# EAGLE library part COMPARATOR_2OUTPUT_2EXTERN (library analog-computer)
Compartor with TRUE and FALSE binary output U = 0 for (a > b) U = 1 for (b > a) Two extra external control lines.
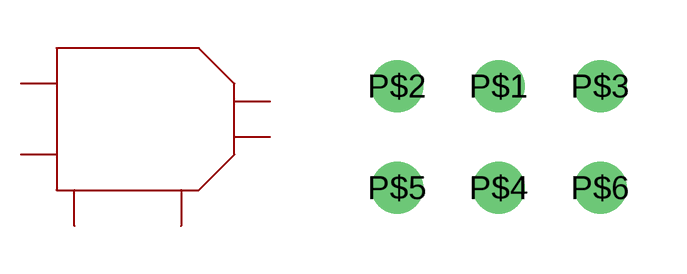
[diagram p2: symbol with the pads of SIX_IO; footprint SIX_IO]

Designator prefix -

## COMPARATOR_2OUTPUT_2EXTERN  [SIX_IO]
P$1  P$1  in
P$2  P$2  in
P$3  P$3
P$4  P$4
P$5  P$5  out
P$6  P$6  out

## Footprint SIX_IO (pad centres in mm)
drill 0.8 round: P$1 0,0; P$2 -2.54,0; P$3 2.54,0; P$4 0,-2.54; P$5 -2.54,-2.54; P$6 2.54,-2.54